# EAGLE library part FTDI_CABLE (library mqp_custom_parts)
PIN HEADER
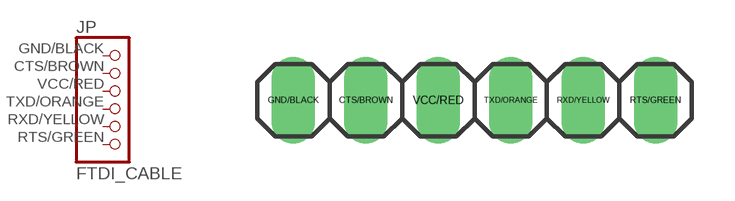
[diagram p4: symbol with the pads of FTDI_5V_SPARKFUN; footprint FTDI_5V_SPARKFUN]

Designator prefix JP

## FTDI_CABLE  [FTDI_5V_SPARKFUN]
CTS/BROWN  2  pas
GND/BLACK  1  pas
RTS/GREEN  6  pas
RXD/YELLOW  5  pas
TXD/ORANGE  4  pas
VCC/RED  3  pas

## Footprint FTDI_5V_SPARKFUN (pad centres in mm)
PIN HEADER
drill 1.016 long: CTS/BROWN -3.81,0; GND/BLACK -6.35,0; RTS/GREEN 6.35,0; RXD/YELLOW 3.81,0; TXD/ORANGE 1.27,0; VCC/RED -1.27,0